# EAGLE library part MT9J003I12STCU (library ICs)
1/2.3" 10MP Colour CMOS Digital Image Sensor
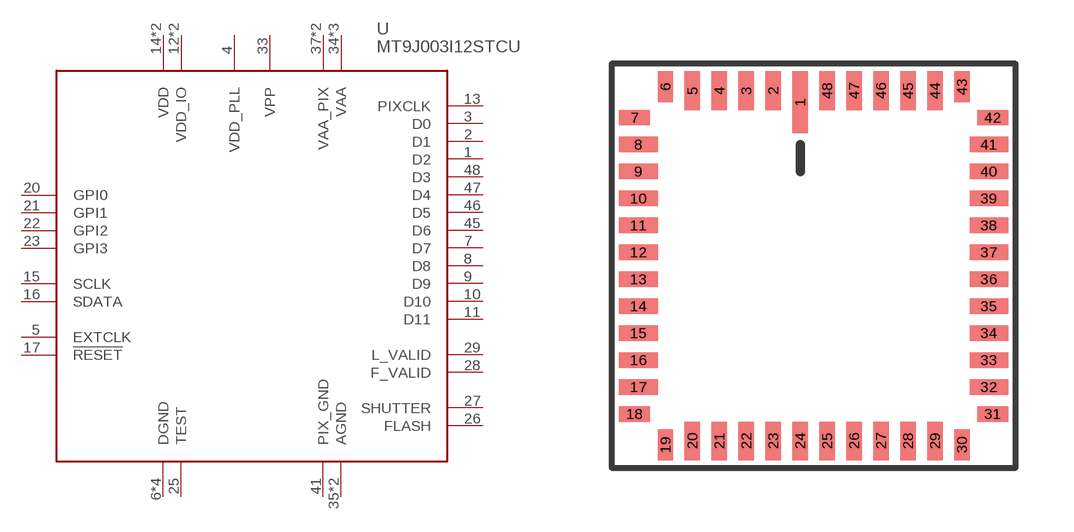
[diagram p162: symbol with the pads of MT9J003; footprint MT9J003]

Designator prefix U

## MT9J003I12STCU (ARROW: MT9J003I12STCU-DR; PRICE_PER: 28.02; VALUE: MT9J003)  [MT9J003]
1  D2
2  D1
3  D0
4  VDD_PLL
5  EXTCLK
6  DGND
7  D7
8  D8
9  D9
10  D10
11  D11
12  VDD_IO
13  PIXCLK
14  VDD
15  SCLK
16  SDATA
17  !RESET
18  VDD_IO
19  VDD
20  GPI0
21  GPI1
22  GPI2
23  GPI3
24  DGND
25  TEST
26  FLASH
27  SHUTTER
28  F_VALID
29  L_VALID
30  DGND
33  VPP
34  VAA
35  AGND
36  VAA
37  VAA_PIX
38  VAA_PIX
39  AGND
40  VAA
41  PIX_GND
44  DGND
45  D6
46  D5
47  D4
48  D3

## Footprint MT9J003 (pad centres in mm)
smd 0.4 x 1.6: 1 -0.35,4.25
smd 0.4 x 1: 2 -1.05,4.55; 3 -1.75,4.55; 4 -2.45,4.55; 5 -3.15,4.55; 20 -3.15,-4.55; 21 -2.45,-4.55; 22 -1.75,-4.55; 23 -1.05,-4.55; 24 -0.35,-4.55; 25 0.35,-4.55; 26 1.05,-4.55; 27 1.75,-4.55; 28 2.45,-4.55; 29 3.15,-4.55; 44 3.15,4.55; 45 2.45,4.55; 46 1.75,4.55; 47 1.05,4.55; 48 0.35,4.55
smd 0.4 x 0.8: 6 -3.85,4.65; 19 -3.85,-4.65; 30 3.85,-4.65; 43 3.85,4.65
smd 0.8 x 0.4: 7 -4.65,3.85; 18 -4.65,-3.85; 31 4.65,-3.85; 42 4.65,3.85
smd 1 x 0.4: 8 -4.55,3.15; 9 -4.55,2.45; 10 -4.55,1.75; 11 -4.55,1.05; 12 -4.55,0.35; 13 -4.55,-0.35; 14 -4.55,-1.05; 15 -4.55,-1.75; 16 -4.55,-2.45; 17 -4.55,-3.15; 32 4.55,-3.15; 33 4.55,-2.45; 34 4.55,-1.75; 35 4.55,-1.05; 36 4.55,-0.35; 37 4.55,0.35; 38 4.55,1.05; 39 4.55,1.75; 40 4.55,2.45; 41 4.55,3.15